# Altium schematic symbol library CRT1206-BY-1002ELF.SchLib: 1 symbol
Pins are listed as number, name and electrical type; pins without a type are passive.

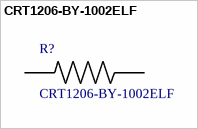
[diagram p0: symbol CRT1206-BY-1002ELF]

## CRT1206-BY-1002ELF
designator R?
/ THIN FILM CHIP RESISTOR; Power Rating: 250mW; Leaded Process Compatible: Yes ; RoHS Compliant: Yes /; MF: Bourns; SnapEDA_Link: https://www.snapeda.com/parts/CRT1206-BY-1002ELF/Bourns/view-part/?ref=snap; Availability: Unavailable; Price: None; MP: CRT1206-BY-1002ELF; Package: 3015 Stackpole; Value: *
footprint *RESC3015X65N
pins: 1, 2